# Altium footprint library Knopka.PcbLib: 58 footprints (part 2 of 4)
Each footprint in its own frame and in the unit in brackets; x right, y up, seen from the top. Pads: shape width x height; smd on the part's side, far side on the other; paste and mask are expansions set on the pad; w line width, h text height; cw(c..) or ccw(c..) is an arc to the next point about the centre after c.
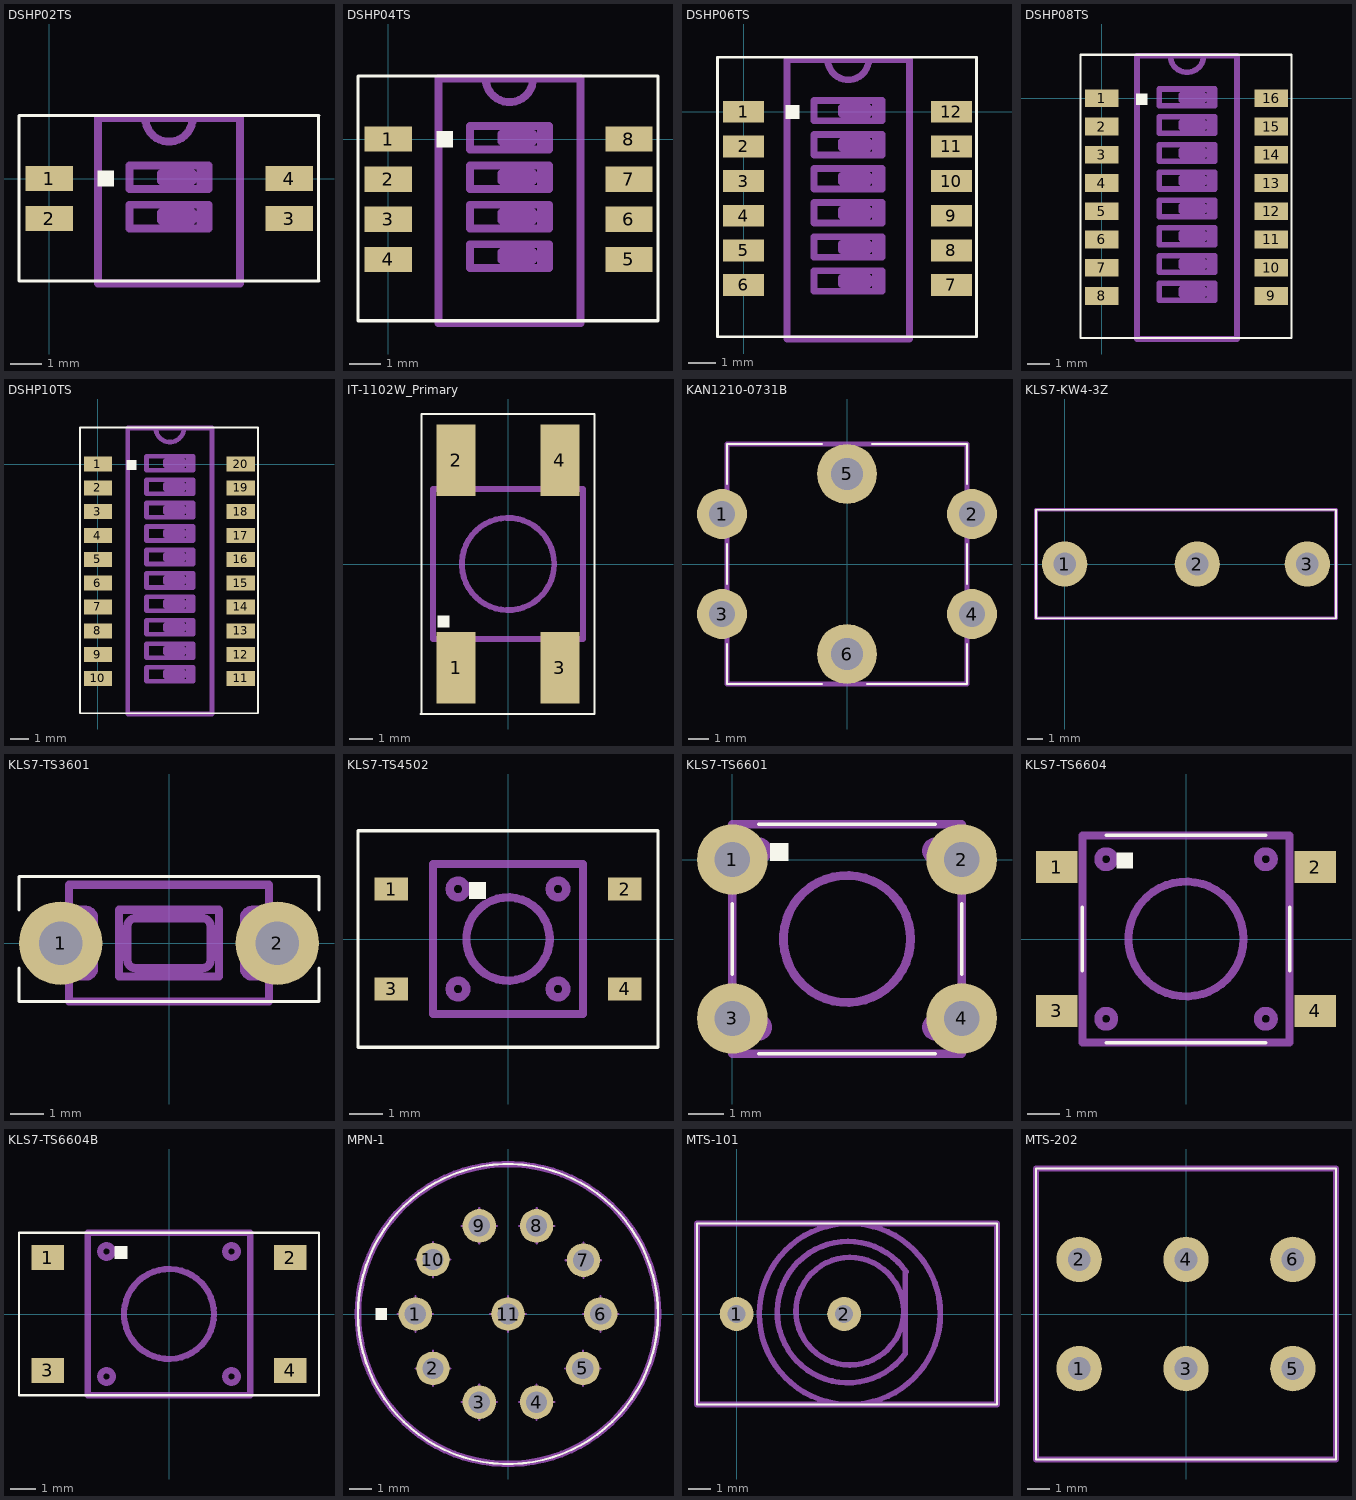
[diagram p1: the footprints below, top view; thin cyan lines are the x and y axes]

## DSHP02TS [mm]
pads (4):
  rect 1.5x0.8 smd: 1(0,0) 2(0,-1.27) 3(7.62,-1.27) 4(7.62,0)
Top Overlay:
  region: 1.54,0.25 1.54,-0.25 2.04,-0.25 2.04,0.25
  lines w0.1: 8.54,-3.25 8.54,2 ; 8.56,-3.25 -0.96,-3.25 -0.96,2 8.56,2
Mechanical 1:
  lines w0.25: 3.05,1.92 ccw(c3.8,1.92) 4.55,1.92 ; 4.3,-1.33 4.3,-1.08 ; 4.3,-0.08 4.3,0.17 ; 4.8,-1.58 4.8,-0.83 ; 4.8,-0.33 4.8,0.42 ; 1.55,-3.33 6.05,-3.33 6.05,1.92 1.55,1.92 1.55,-3.33 ; 2.55,-1.58 5.05,-1.58 5.05,-0.83 2.55,-0.83 2.55,-1.58 ; 2.55,-0.33 2.55,0.42 5.05,0.42 5.05,-0.33 2.55,-0.33 ; 3.55,-1.33 4.55,-1.33 4.55,-1.08 3.55,-1.08 3.55,-1.33 ; 3.55,-0.08 4.55,-0.08 4.55,0.17 3.55,0.17 3.55,-0.08

## DSHP04TS [mm]
pads (8):
  rect 1.5x0.8 smd: 1(0,0) 2(0,-1.27) 3(0,-2.54) 4(0,-3.81) 5(7.62,-3.81) 6(7.62,-2.54) 7(7.62,-1.27) 8(7.62,0)
Top Overlay:
  region: 1.54,0.25 1.54,-0.25 2.04,-0.25 2.04,0.25
  lines w0.1: -0.96,-5.75 8.54,-5.75 8.54,2 -0.96,2 -0.96,-5.75
Mechanical 1:
  lines w0.25: 3.085,1.92 ccw(c3.835,1.92) 4.585,1.92 ; 4.335,-3.83 4.335,-3.58 ; 4.335,-2.58 4.335,-2.33 ; 4.335,-1.33 4.335,-1.08 ; 4.335,-0.08 4.335,0.17 ; 4.835,-4.08 4.835,-3.33 ; 4.835,-2.83 4.835,-2.08 ; 4.835,-1.58 4.835,-0.83 ; 4.835,-0.33 4.835,0.42 ; 1.585,-5.83 6.085,-5.83 6.085,1.92 1.585,1.92 1.585,-5.83 ; 2.585,-4.08 5.085,-4.08 5.085,-3.33 2.585,-3.33 2.585,-4.08 ; 2.585,-2.83 5.085,-2.83 5.085,-2.08 2.585,-2.08 2.585,-2.83 ; 2.585,-1.58 5.085,-1.58 5.085,-0.83 2.585,-0.83 2.585,-1.58 ; 2.585,-0.33 2.585,0.42 5.085,0.42 5.085,-0.33 2.585,-0.33 ; 3.585,-3.83 4.585,-3.83 4.585,-3.58 3.585,-3.58 3.585,-3.83 ; 3.585,-2.58 4.585,-2.58 4.585,-2.33 3.585,-2.33 3.585,-2.58 ; 3.585,-1.33 4.585,-1.33 4.585,-1.08 3.585,-1.08 3.585,-1.33 ; 3.585,-0.08 4.585,-0.08 4.585,0.17 3.585,0.17 3.585,-0.08

## DSHP06TS [mm]
pads (12):
  rect 1.5x0.8 smd: 1(0,0) 2(0,-1.27) 3(0,-2.54) 4(0,-3.81) 5(0,-5.08) 6(0,-6.35) 7(7.62,-6.35) 8(7.62,-5.08) 9(7.62,-3.81) 10(7.62,-2.54) 11(7.62,-1.27) 12(7.62,0)
Top Overlay:
  region: 1.54,0.25 1.54,-0.25 2.04,-0.25 2.04,0.25
  lines w0.1: -0.96,-8.25 8.54,-8.25 8.54,2 -0.96,2 -0.96,-8.25
Mechanical 1:
  lines w0.25: 3.085,1.92 ccw(c3.835,1.92) 4.585,1.92 ; 4.335,-6.33 4.335,-6.08 ; 4.335,-5.08 4.335,-4.83 ; 4.335,-3.83 4.335,-3.58 ; 4.335,-2.58 4.335,-2.33 ; 4.335,-1.33 4.335,-1.08 ; 4.335,-0.08 4.335,0.17 ; 4.835,-6.58 4.835,-5.83 ; 4.835,-5.33 4.835,-4.58 ; 4.835,-4.08 4.835,-3.33 ; 4.835,-2.83 4.835,-2.08 ; 4.835,-1.58 4.835,-0.83 ; 4.835,-0.33 4.835,0.42 ; 1.585,-8.33 6.085,-8.33 6.085,1.92 1.585,1.92 1.585,-8.33 ; 2.585,-6.58 5.085,-6.58 5.085,-5.83 2.585,-5.83 2.585,-6.58 ; 2.585,-5.33 5.085,-5.33 5.085,-4.58 2.585,-4.58 2.585,-5.33 ; 2.585,-4.08 5.085,-4.08 5.085,-3.33 2.585,-3.33 2.585,-4.08 ; 2.585,-2.83 5.085,-2.83 5.085,-2.08 2.585,-2.08 2.585,-2.83 ; 2.585,-1.58 5.085,-1.58 5.085,-0.83 2.585,-0.83 2.585,-1.58 ; 2.585,-0.33 2.585,0.42 5.085,0.42 5.085,-0.33 2.585,-0.33 ; 3.585,-6.33 4.585,-6.33 4.585,-6.08 3.585,-6.08 3.585,-6.33 ; 3.585,-5.08 4.585,-5.08 4.585,-4.83 3.585,-4.83 3.585,-5.08 ; 3.585,-3.83 4.585,-3.83 4.585,-3.58 3.585,-3.58 3.585,-3.83 ; 3.585,-2.58 4.585,-2.58 4.585,-2.33 3.585,-2.33 3.585,-2.58 ; 3.585,-1.33 4.585,-1.33 4.585,-1.08 3.585,-1.08 3.585,-1.33 ; 3.585,-0.08 4.585,-0.08 4.585,0.17 3.585,0.17 3.585,-0.08

## DSHP08TS [mm]
pads (16):
  rect 1.5x0.8 smd: 1(0,0) 2(0,-1.27) 3(0,-2.54) 4(0,-3.81) 5(0,-5.08) 6(0,-6.35) 7(0,-7.62) 8(0,-8.89) 9(7.62,-8.89) 10(7.62,-7.62) 11(7.62,-6.35) 12(7.62,-5.08) 13(7.62,-3.81) 14(7.62,-2.54) 15(7.62,-1.27) 16(7.62,0)
Top Overlay:
  region: 1.54,0.21 1.54,-0.29 2.04,-0.29 2.04,0.21
  lines w0.1: -0.96,-10.79 8.54,-10.79 8.54,1.96 -0.96,1.96 -0.96,-10.79
Mechanical 1:
  lines w0.25: 3.085,1.92 ccw(c3.835,1.92) 4.585,1.92 ; 4.335,-8.83 4.335,-8.58 ; 4.335,-7.58 4.335,-7.33 ; 4.335,-6.33 4.335,-6.08 ; 4.335,-5.08 4.335,-4.83 ; 4.335,-3.83 4.335,-3.58 ; 4.335,-2.58 4.335,-2.33 ; 4.335,-1.33 4.335,-1.08 ; 4.335,-0.08 4.335,0.17 ; 4.835,-9.08 4.835,-8.33 ; 4.835,-7.83 4.835,-7.08 ; 4.835,-6.58 4.835,-5.83 ; 4.835,-5.33 4.835,-4.58 ; 4.835,-4.08 4.835,-3.33 ; 4.835,-2.83 4.835,-2.08 ; 4.835,-1.58 4.835,-0.83 ; 4.835,-0.33 4.835,0.42 ; 1.585,-10.83 6.085,-10.83 6.085,1.92 1.585,1.92 1.585,-10.83 ; 2.585,-9.08 5.085,-9.08 5.085,-8.33 2.585,-8.33 2.585,-9.08 ; 2.585,-7.83 5.085,-7.83 5.085,-7.08 2.585,-7.08 2.585,-7.83 ; 2.585,-6.58 5.085,-6.58 5.085,-5.83 2.585,-5.83 2.585,-6.58 ; 2.585,-5.33 5.085,-5.33 5.085,-4.58 2.585,-4.58 2.585,-5.33 ; 2.585,-4.08 5.085,-4.08 5.085,-3.33 2.585,-3.33 2.585,-4.08 ; 2.585,-2.83 2.585,-2.08 5.085,-2.08 5.085,-2.83 2.585,-2.83 ; 2.585,-1.58 5.085,-1.58 5.085,-0.83 2.585,-0.83 2.585,-1.58 ; 2.585,-0.33 5.085,-0.33 5.085,0.42 2.585,0.42 2.585,-0.33 ; 3.585,-8.83 4.585,-8.83 4.585,-8.58 3.585,-8.58 3.585,-8.83 ; 3.585,-7.58 4.585,-7.58 4.585,-7.33 3.585,-7.33 3.585,-7.58 ; 3.585,-6.33 4.585,-6.33 4.585,-6.08 3.585,-6.08 3.585,-6.33 ; 3.585,-5.08 4.585,-5.08 4.585,-4.83 3.585,-4.83 3.585,-5.08 ; 3.585,-3.83 4.585,-3.83 4.585,-3.58 3.585,-3.58 3.585,-3.83 ; 3.585,-2.58 4.585,-2.58 4.585,-2.33 3.585,-2.33 3.585,-2.58 ; 3.585,-1.33 4.585,-1.33 4.585,-1.08 3.585,-1.08 3.585,-1.33 ; 3.585,-0.08 4.585,-0.08 4.585,0.17 3.585,0.17 3.585,-0.08

## DSHP10TS [mm]
pads (20):
  rect 1.5x0.8 smd: 1(0,0) 2(0,-1.27) 3(0,-2.54) 4(0,-3.81) 5(0,-5.08) 6(0,-6.35) 7(0,-7.62) 8(0,-8.89) 9(0,-10.16) 10(0,-11.43) 11(7.62,-11.43) 12(7.62,-10.16) 13(7.62,-8.89) 14(7.62,-7.62) 15(7.62,-6.35) 16(7.62,-5.08) 17(7.62,-3.81) 18(7.62,-2.54) 19(7.62,-1.27) 20(7.62,0)
Top Overlay:
  region: 1.54,0.21 1.54,-0.29 2.04,-0.29 2.04,0.21
  lines w0.1: -0.96,-13.29 8.54,-13.29 8.54,1.96 -0.96,1.96 -0.96,-13.29
Mechanical 1:
  lines w0.25: 3.085,1.92 ccw(c3.835,1.92) 4.585,1.92 ; 4.335,-11.33 4.335,-11.08 ; 4.335,-10.08 4.335,-9.83 ; 4.335,-8.83 4.335,-8.58 ; 4.335,-7.58 4.335,-7.33 ; 4.335,-6.33 4.335,-6.08 ; 4.335,-5.08 4.335,-4.83 ; 4.335,-3.83 4.335,-3.58 ; 4.335,-2.58 4.335,-2.33 ; 4.335,-1.33 4.335,-1.08 ; 4.335,-0.08 4.335,0.17 ; 4.835,-11.58 4.835,-10.83 ; 4.835,-10.33 4.835,-9.58 ; 4.835,-9.08 4.835,-8.33 ; 4.835,-7.83 4.835,-7.08 ; 4.835,-6.58 4.835,-5.83 ; 4.835,-5.33 4.835,-4.58 ; 4.835,-4.08 4.835,-3.33 ; 4.835,-2.83 4.835,-2.08 ; 4.835,-1.58 4.835,-0.83 ; 4.835,-0.33 4.835,0.42 ; 1.585,-13.33 6.085,-13.33 6.085,1.92 1.585,1.92 1.585,-13.33 ; 2.585,-11.58 5.085,-11.58 5.085,-10.83 2.585,-10.83 2.585,-11.58 ; 2.585,-10.33 2.585,-9.58 5.085,-9.58 5.085,-10.33 2.585,-10.33 ; 2.585,-9.08 5.085,-9.08 5.085,-8.33 2.585,-8.33 2.585,-9.08 ; 2.585,-7.83 5.085,-7.83 5.085,-7.08 2.585,-7.08 2.585,-7.83 ; 2.585,-6.58 5.085,-6.58 5.085,-5.83 2.585,-5.83 2.585,-6.58 ; 2.585,-5.33 5.085,-5.33 5.085,-4.58 2.585,-4.58 2.585,-5.33 ; 2.585,-4.08 5.085,-4.08 5.085,-3.33 2.585,-3.33 2.585,-4.08 ; 2.585,-2.83 2.585,-2.08 5.085,-2.08 5.085,-2.83 2.585,-2.83 ; 2.585,-1.58 5.085,-1.58 5.085,-0.83 2.585,-0.83 2.585,-1.58 ; 2.585,-0.33 5.085,-0.33 5.085,0.42 2.585,0.42 2.585,-0.33 ; 3.585,-11.33 4.585,-11.33 4.585,-11.08 3.585,-11.08 3.585,-11.33 ; 3.585,-10.08 4.585,-10.08 4.585,-9.83 3.585,-9.83 3.585,-10.08 ; 3.585,-8.83 4.585,-8.83 4.585,-8.58 3.585,-8.58 3.585,-8.83 ; 3.585,-7.58 4.585,-7.58 4.585,-7.33 3.585,-7.33 3.585,-7.58 ; 3.585,-6.33 4.585,-6.33 4.585,-6.08 3.585,-6.08 3.585,-6.33 ; 3.585,-5.08 4.585,-5.08 4.585,-4.83 3.585,-4.83 3.585,-5.08 ; 3.585,-3.83 4.585,-3.83 4.585,-3.58 3.585,-3.58 3.585,-3.83 ; 3.585,-2.58 4.585,-2.58 4.585,-2.33 3.585,-2.33 3.585,-2.58 ; 3.585,-1.33 4.585,-1.33 4.585,-1.08 3.585,-1.08 3.585,-1.33 ; 3.585,-0.08 4.585,-0.08 4.585,0.17 3.585,0.17 3.585,-0.08

## IT-1102W_Primary [mm]
pads (4):
  rect 1.7x3.1 smd: 1(-2.25,-4.5) 2(-2.25,4.5) 3(2.25,-4.5) 4(2.25,4.5)
Top Overlay:
  region: -3.04,-2.25 -3.04,-2.75 -2.54,-2.75 -2.54,-2.25
  lines w0.1: -3.79,-6.5 3.75,-6.5 3.75,6.5 -3.75,6.5 -3.75,-6.5
Mechanical 1:
  circle w0.25: c0,0 r2
  lines w0.25: -3.25,-3.25 3.25,-3.25 3.25,3.25 -3.25,3.25 -3.25,-3.25

## KAN1210-0731B [mm]
pads (6):
  round 2.5 hole 1.3: 1(-6.25,2.5) 2(6.25,2.5) 3(-6.25,-2.5) 4(6.25,-2.5)
  round 3 hole 1.6: 5(0,4.5) 6(0,-4.5)
Top Overlay:
  lines w0.1: -6,-4 -6,-6 -1.25,-6 ; -6,-1 -6,1 ; -6,4 -6,6 -1.25,6 ; 1,-6 6,-6 6,-4 ; 1.25,6 6,6 6,4 ; 6,-1 6,1
Mechanical 1:
  lines w0.25: -6,-6 6,-6 6,6 -6,6 -6,-6

## KLS7-KW4-3Z [mm]
pads (3):
  round 3 hole 1.5: 1(0,0) 2(8.8,0) 3(16.1,0)
Top Layer:
  lines w0.1: -1.9,-3.6 -1.9,0 -1.9,3.6
Top Overlay:
  lines w0.1: -1.9,-3.6 18,-3.6 18,3.6 -1.9,3.6 -1.9,-3.6
Mechanical 1:
  lines w0.25: -1.9,-3.6 18,-3.6 18,3.6 -1.9,3.6 -1.9,-3.6

## KLS7-TS3601 [mm]
pads (2):
  round 2.5 hole 1.3: 1(-3.25,0) 2(3.25,0)
Top Overlay:
  lines w0.1: -4.5,-0.75 -4.5,-1.75 4.5,-1.75 4.5,-0.75 ; -4.5,1 -4.5,2 4.5,2 4.5,1
Mechanical 1:
  lines w0.25: -3,-1 -2.5,-1 ccw(c-2.5,-0.75) -2.25,-0.75 -2.25,0.75 ccw(c-2.5,0.75) -2.5,1 -3,1 ; 3,-1 2.5,-1 cw(c2.5,-0.75) 2.25,-0.75 2.25,0.75 cw(c2.5,0.75) 2.5,1 3,1 ; -3,-1.75 3,-1.75 3,1.75 -3,1.75 -3,-1.75 ; -1.5,-1 1.5,-1 1.5,1 -1.5,1 -1.5,-1 ; -1.25,-0.5 ccw(c-1,-0.5) -1,-0.75 1,-0.75 ccw(c1,-0.5) 1.25,-0.5 1.25,0.5 ccw(c1,0.5) 1,0.75 -1,0.75 ccw(c-1,0.5) -1.25,0.5 -1.25,-0.5

## KLS7-TS4502 [mm]
pads (4):
  rect 1x0.7 smd: 1(-3.5,1.5) 2(3.5,1.5) 3(-3.5,-1.5) 4(3.5,-1.5)
Top Overlay:
  region: -1.17,1.71 -1.17,1.21 -0.67,1.21 -0.67,1.71
  lines w0.1: -4.5,-3.25 4.5,-3.25 4.5,3.25 -4.5,3.25 -4.5,-3.25
Mechanical 1:
  circle w0.25: c0,0 r1.25
  circle w0.25: c1.5,1.5 r0.25
  circle w0.25: c1.5,-1.5 r0.25
  circle w0.25: c-1.5,1.5 r0.25
  circle w0.25: c-1.5,-1.5 r0.25
  lines w0.25: -2.25,-2.25 2.25,-2.25 2.25,2.25 -2.25,2.25 -2.25,-2.25

## KLS7-TS6601 [mm]
pads (4):
  round 2 hole 1: 1(0,0) 2(6.5,0) 3(0,-4.5) 4(6.5,-4.5)
Top Overlay:
  region: 1.08,0.46 1.08,-0.04 1.58,-0.04 1.58,0.46
  lines w0.1: 0,-3.25 0,-1.25 ; 0.75,-5.5 5.75,-5.5 ; 0.75,1 5.75,1 ; 6.5,-3.25 6.5,-1.25
Mechanical 1:
  circle w0.25: c3.25,-2.25 r1.8
  circle w0.25: c5.75,0.25 r0.25
  circle w0.25: c5.75,-4.75 r0.25
  circle w0.25: c0.75,0.25 r0.25
  circle w0.25: c0.75,-4.75 r0.25
  lines w0.25: 0,-5.5 6.5,-5.5 6.5,1 0,1 0,-5.5

## KLS7-TS6604 [mm]
pads (4):
  rect 1.3x1 smd: 1(-4.05,2.25) 2(4.05,2.25) 3(-4.05,-2.25) 4(4.05,-2.25)
Top Overlay:
  region: -2.17,2.71 -2.17,2.21 -1.67,2.21 -1.67,2.71
  lines w0.1: -3.25,-1 -3.25,1 ; -2.5,-3.25 2.5,-3.25 ; -2.5,3.25 2.5,3.25 ; 3.25,-1 3.25,1
Mechanical 1:
  circle w0.25: c0,0 r1.8
  circle w0.25: c2.5,2.5 r0.25
  circle w0.25: c2.5,-2.5 r0.25
  circle w0.25: c-2.5,2.5 r0.25
  circle w0.25: c-2.5,-2.5 r0.25
  lines w0.25: -3.25,-3.25 3.25,-3.25 3.25,3.25 -3.25,3.25 -3.25,-3.25

## KLS7-TS6604B [mm]
pads (4):
  rect 1.3x1 smd: 1(-4.85,2.25) 2(4.85,2.25) 3(-4.85,-2.25) 4(4.85,-2.25)
Top Overlay:
  region: -2.17,2.71 -2.17,2.21 -1.67,2.21 -1.67,2.71
  lines w0.1: -6,-3.25 6,-3.25 6,3.25 -6,3.25 -6,-3.25
Mechanical 1:
  circle w0.25: c0,0 r1.8
  circle w0.25: c2.5,2.5 r0.25
  circle w0.25: c2.5,-2.5 r0.25
  circle w0.25: c-2.5,2.5 r0.25
  circle w0.25: c-2.5,-2.5 r0.25
  lines w0.25: -3.25,-3.25 3.25,-3.25 3.25,3.25 -3.25,3.25 -3.25,-3.25

## MPN-1 [mil]
pads (11):
  round 60 hole 38: 1(-165.35,0) 2(-133.86,-97.24) 3(-51.18,-157.28) 4(50.98,-157.28) 5(133.66,-97.24) 6(165.35,0) 7(134.65,96.06) 8(50.98,157.28) 9(-51.18,157.28) 10(-133.86,97.24) 11(0,0)
Top Overlay:
  circle w3.94: c0,0 r267.72
  region: -236.22,-9.84 -216.54,-9.84 -216.54,9.84 -236.22,9.84
Mechanical 1:
  circle w11.81: c0,0 r267.72
  lines w3.94: -196.85,0 -133.86,0 ; -165.35,-97.24 -102.36,-97.24 ; -165.35,-31.5 -165.35,31.5 ; -165.35,97.24 -102.36,97.24 ; -133.86,-128.74 -133.86,-65.75 ; -133.86,65.75 -133.86,128.74 ; -82.68,-157.09 -19.68,-157.09 ; -82.68,157.28 -19.68,157.28 ; -51.18,-188.58 -51.18,-125.59 ; -51.18,125.79 -51.18,188.78 ; -31.5,0 31.5,0 ; 0,-31.5 0,31.5 ; 19.49,-157.28 82.48,-157.28 ; 19.68,157.28 82.68,157.28 ; 50.98,-188.78 50.98,-125.79 ; 51.18,125.79 51.18,188.78 ; 102.17,-97.24 165.16,-97.24 ; 103.15,96.06 166.14,96.06 ; 133.66,-128.74 133.66,-65.75 ; 133.86,0 196.85,0 ; 134.65,64.57 134.65,127.56 ; 165.35,-31.5 165.35,31.5
  text "7" at 141.73,102.36 h61.52
  text "4" at 62.99,-244.09 h61.52
  text "3" at -102.36,-244.09 h61.52
  text "8" at 55.12,173.23 h61.52
  text "6" at 212.6,-39.37 h61.52
  text "5" at 141.73,-188.98 h61.52
  text "9" at -47.24,173.23 h61.52
  text "10" at -188.98,125.98 h61.52
  text "1" at -251.97,-39.37 h61.52
  text "2" at -188.98,-181.1 h61.52

## MTS-101 [mm]
pads (2):
  round 1.5 hole 0.8: 1(0,0) 2(4.75,0)
Top Overlay:
  lines w0.1: -1.75,-4 11.5,-4 11.5,4 -1.75,4 -1.75,-4
Mechanical 1:
  lines w0.25: 7.448,-1.752 cw(c4.92,0.085) 4.92,3.21 cw(c4.92,0.085) 7.483,1.873 ; 7.45,-1.75 7.45,1.85 ; -1.75,-4 11.5,-4 11.5,4 -1.75,4 -1.75,-4 ; 5,-4 ccw(c5,0) 5,4 ccw(c5,0) 5,-4 ; 5,-2.25 ccw(c5,0.125) 5,2.5 ccw(c5,0.125) 5,-2.25

## MTS-202 [mm]
pads (6):
  round 2 hole 1: 1(-4.7,-2.4) 2(-4.7,2.4) 3(0,-2.4) 4(0,2.4) 5(4.7,-2.4) 6(4.7,2.4)
Top Overlay:
  lines w0.1: -6.6,-6.4 6.6,-6.4 6.6,6.4 -6.6,6.4 -6.6,-6.4
Mechanical 1:
  lines w0.25: -6.6,-6.4 6.6,-6.4 6.6,6.4 -6.6,6.4 -6.6,0 -6.6,-6.4